# Altium footprint library MLACHP_P.PCBLIB: 129 footprints (part 3 of 9)
Each footprint in its own frame and in the unit in brackets; x right, y up, seen from the top. Pads: shape width x height; smd on the part's side, far side on the other; paste and mask are expansions set on the pad; w line width, h text height; cw(c..) or ccw(c..) is an arc to the next point about the centre after c.
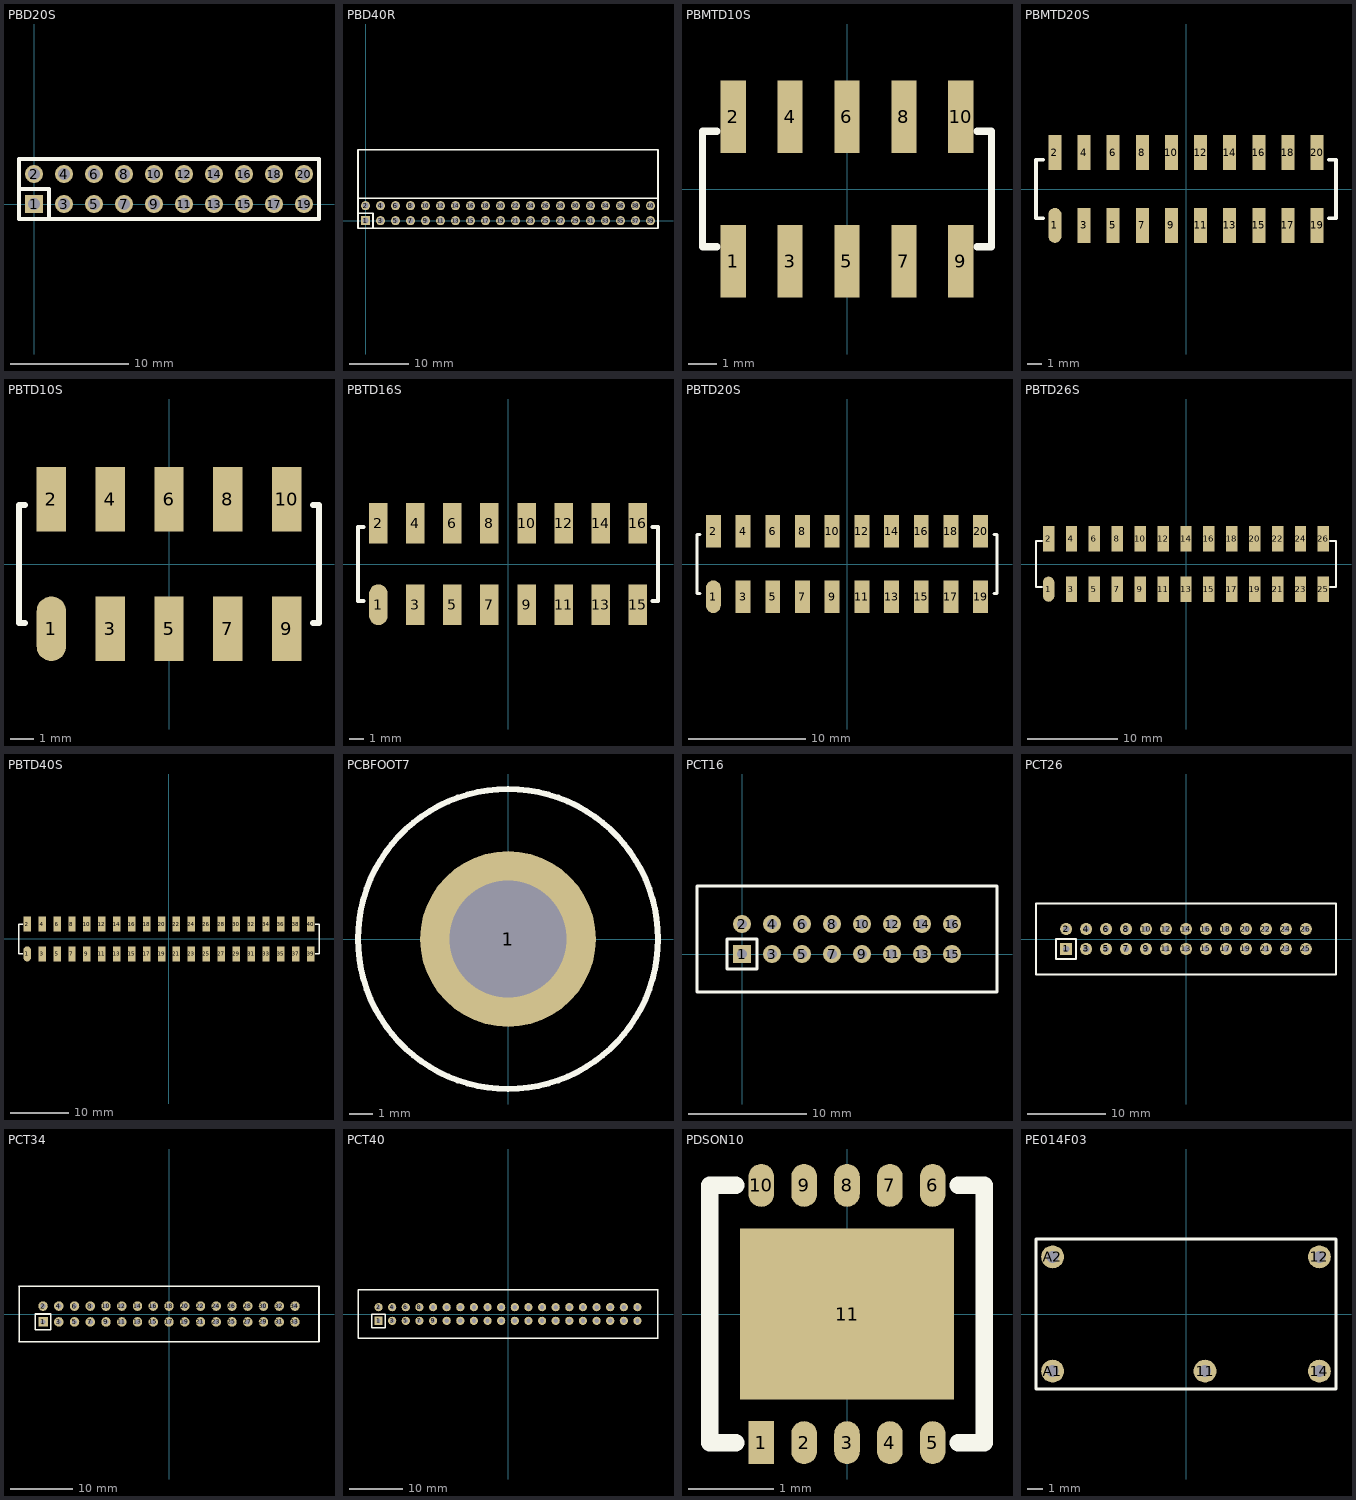
[diagram p2: the footprints below, top view; thin cyan lines are the x and y axes]

## PBD20S [mil]
pads (20):
  rect 60x60 hole 40: 1(0,0)
  round 60 hole 40: 2(0,100) 3(100,0) 4(100,100) 5(200,0) 6(200,100) 7(300,0) 8(300,100) 9(400,0) 10(400,100) 11(500,0) 12(500,100) 13(600,0) 14(600,100) 15(700,0) 16(700,100) 17(800,0) 18(800,100) 19(900,0) 20(900,100)
TopOverlay:
  lines w12: -50,50 50,50 50,-50 ; -50,-50 950,-50 950,150 -50,150 -50,-50
3D body: height 314.96, standoff 0, extent 900,-50 950,150
3D body: height 314.96, standoff 0, extent 700,-50 800,150
3D body: height 275.59, standoff -118.11, extent 680,-20 720,20
3D body: height 275.59, standoff -118.11, extent 680,80 720,120
3D body: height 275.59, standoff -118.11, extent 580,-20 620,20
3D body: height 275.59, standoff -118.11, extent 580,80 620,120
3D body: height 275.59, standoff -118.11, extent 480,-20 520,20
3D body: height 275.59, standoff -118.11, extent 480,80 520,120
3D body: height 275.59, standoff -118.11, extent 380,-20 420,20
3D body: height 275.59, standoff -118.11, extent 380,80 420,120
3D body: height 275.59, standoff -118.11, extent 280,-20 320,20
3D body: height 275.59, standoff -118.11, extent 280,80 320,120
3D body: height 275.59, standoff -118.11, extent 180,-20 220,20
3D body: height 275.59, standoff -118.11, extent 180,80 220,120
3D body: height 275.59, standoff -118.11, extent 80,-20 120,20
3D body: height 275.59, standoff -118.11, extent 80,80 120,120
3D body: height 275.59, standoff -118.11, extent -20,80 20,120
3D body: height 275.59, standoff -118.11, extent -20,-20 20,20
3D body: height 314.96, standoff 0, extent 0,-50 100,150
3D body: height 314.96, standoff 0, extent 100,-50 200,150
3D body: height 314.96, standoff 0, extent 200,-50 300,150
3D body: height 314.96, standoff 0, extent 300,-50 400,150
3D body: height 314.96, standoff 0, extent 400,-50 500,150
3D body: height 314.96, standoff 0, extent 500,-50 600,150
3D body: height 314.96, standoff 0, extent 600,-50 700,150
3D body: height 314.96, standoff 0, extent -50,-50 0,150
3D body: height 314.96, standoff 0, extent 800,-50 900,150
3D body: height 275.59, standoff -118.11, extent 780,80 820,120
3D body: height 275.59, standoff -118.11, extent 780,-20 820,20
3D body: height 275.59, standoff -118.11, extent 880,80 920,120
3D body: height 275.59, standoff -118.11, extent 880,-20 920,20

## PBD40R [mil]
pads (40):
  rect 60x60 hole 40: 1(0,0)
  round 60 hole 40: 2(0,100) 3(100,0) 4(100,100) 5(200,0) 6(200,100) 7(300,0) 8(300,100) 9(400,0) 10(400,100) 11(500,0) 12(500,100) 13(600,0) 14(600,100) 15(700,0) 16(700,100) 17(800,0) 18(800,100) 19(900,0) 20(900,100) 21(1000,0) 22(1000,100) 23(1100,0) 24(1100,100) 25(1200,0) 26(1200,100) 27(1300,0) 28(1300,100) 29(1400,0) 30(1400,100) 31(1500,0) 32(1500,100) 33(1600,0) 34(1600,100) 35(1700,0) 36(1700,100) 37(1800,0) 38(1800,100) 39(1900,0) 40(1900,100)
TopOverlay:
  lines w11.81: -50,150 -50,472.44 1950,472.44 1950,150
  lines w12: -50,50 50,50 50,-50 ; -50,-50 -50,150 1950,150 1950,-50 950,-50 -50,-50
3D body: height 155, standoff 145, extent 1885,-5 1915,205
3D body: height 55, standoff 45, extent 1885,95 1915,205
3D body: height 155, standoff -100, extent 1885,-5 1915,5
3D body: height 55, standoff -100, extent 1885,95 1915,105
3D body: height 155, standoff 145, extent 1785,-5 1815,205
3D body: height 55, standoff 45, extent 1785,95 1815,205
3D body: height 155, standoff -100, extent 1785,-5 1815,5
3D body: height 55, standoff -100, extent 1785,95 1815,105
3D body: height 155, standoff 145, extent 1685,-5 1715,205
3D body: height 55, standoff 45, extent 1685,95 1715,205
3D body: height 155, standoff -100, extent 1685,-5 1715,5
3D body: height 55, standoff -100, extent 1685,95 1715,105
3D body: height 155, standoff 145, extent 1585,-5 1615,205
3D body: height 55, standoff 45, extent 1585,95 1615,205
3D body: height 155, standoff -100, extent 1585,-5 1615,5
3D body: height 55, standoff -100, extent 1585,95 1615,105
3D body: height 155, standoff 145, extent 1485,-5 1515,205
3D body: height 55, standoff 45, extent 1485,95 1515,205
3D body: height 155, standoff -100, extent 1485,-5 1515,5
3D body: height 55, standoff -100, extent 1485,95 1515,105
3D body: height 155, standoff 145, extent 1385,-5 1415,205
3D body: height 55, standoff 45, extent 1385,95 1415,205
3D body: height 155, standoff -100, extent 1385,-5 1415,5
3D body: height 55, standoff -100, extent 1385,95 1415,105
3D body: height 155, standoff 145, extent 1285,-5 1315,205
3D body: height 55, standoff 45, extent 1285,95 1315,205
3D body: height 155, standoff -100, extent 1285,-5 1315,5
3D body: height 55, standoff -100, extent 1285,95 1315,105
3D body: height 155, standoff 145, extent 1185,-5 1215,205
3D body: height 55, standoff 45, extent 1185,95 1215,205
3D body: height 155, standoff -100, extent 1185,-5 1215,5
3D body: height 55, standoff -100, extent 1185,95 1215,105
3D body: height 155, standoff 145, extent 1085,-5 1115,205
3D body: height 55, standoff 45, extent 1085,95 1115,205
3D body: height 155, standoff -100, extent 1085,-5 1115,5
3D body: height 55, standoff -100, extent 1085,95 1115,105
3D body: height 155, standoff 145, extent 985,-5 1015,205
3D body: height 55, standoff 45, extent 985,95 1015,205
3D body: height 155, standoff -100, extent 985,-5 1015,5
3D body: height 55, standoff -100, extent 985,95 1015,105
3D body: height 155, standoff 145, extent 885,-5 915,205
3D body: height 55, standoff 45, extent 885,95 915,205
3D body: height 155, standoff -100, extent 885,-5 915,5
3D body: height 55, standoff -100, extent 885,95 915,105
3D body: height 155, standoff 145, extent 785,-5 815,205
3D body: height 55, standoff 45, extent 785,95 815,205
3D body: height 155, standoff -100, extent 785,-5 815,5
3D body: height 55, standoff -100, extent 785,95 815,105
3D body: height 155, standoff 145, extent 685,-5 715,205
3D body: height 55, standoff 45, extent 685,95 715,205
3D body: height 155, standoff -100, extent 685,-5 715,5
3D body: height 55, standoff -100, extent 685,95 715,105
3D body: height 155, standoff 145, extent 585,-5 615,205
3D body: height 55, standoff 45, extent 585,95 615,205
3D body: height 155, standoff -100, extent 585,-5 615,5
3D body: height 55, standoff -100, extent 585,95 615,105
3D body: height 155, standoff 145, extent 485,-5 515,205
3D body: height 55, standoff 45, extent 485,95 515,205
3D body: height 155, standoff -100, extent 485,-5 515,5
3D body: height 55, standoff -100, extent 485,95 515,105
3D body: height 155, standoff 145, extent 385,-5 415,205
3D body: height 55, standoff 45, extent 385,95 415,205
3D body: height 155, standoff -100, extent 385,-5 415,5
3D body: height 55, standoff -100, extent 385,95 415,105
3D body: height 155, standoff 145, extent 285,-5 315,205
3D body: height 55, standoff 45, extent 285,95 315,205
3D body: height 155, standoff -100, extent 285,-5 315,5
3D body: height 55, standoff -100, extent 285,95 315,105
3D body: height 155, standoff 145, extent 185,-5 215,205
3D body: height 55, standoff 45, extent 185,95 215,205
3D body: height 155, standoff -100, extent 185,-5 215,5
3D body: height 55, standoff -100, extent 185,95 215,105
3D body: height 155, standoff 145, extent 85,-5 115,205
3D body: height 55, standoff 45, extent 85,95 115,205
3D body: height 155, standoff -100, extent 85,-5 115,5
3D body: height 55, standoff -100, extent 85,95 115,105
3D body: height 55, standoff -100, extent -15,95 15,105
3D body: height 155, standoff -100, extent -15,-5 15,5
3D body: height 200, standoff 0, extent -50,150 1950,472.44
3D body: height 55, standoff 45, extent -15,95 15,205
3D body: height 155, standoff 145, extent -15,-5 15,205

## PBMTD10S [mil]
pads (10):
  rect 35x100 smd: 1(-157.48,-100) 2(-157.48,100) 3(-78.74,-100) 4(-78.74,100) 5(0,-100) 6(0,100) 7(78.74,-100) 8(78.74,100) 9(157.48,-100) 10(157.48,100)
TopOverlay:
  lines w10: -180,-80 -200,-80 -200,80 -180,80 ; 180,-80 200,-80 200,80 180,80

## PBMTD20S [mm]
pads (20):
  oval 0.9x2.4 smd: 1(-9,-2.5)
  rect 0.9x2.4 smd: 2(-9,2.5) 3(-7,-2.5) 4(-7,2.5) 5(-5,-2.5) 6(-5,2.5) 7(-3,-2.5) 8(-3,2.5) 9(-1,-2.5) 10(-1,2.5) 11(1,-2.5) 12(1,2.5) 13(3,-2.5) 14(3,2.5) 15(5,-2.5) 16(5,2.5) 17(7,-2.5) 18(7,2.5) 19(9,-2.5) 20(9,2.5)
TopOverlay:
  lines w0.254: -9.8,-2 -10.3,-2 -10.3,2 -9.8,2 ; 9.8,-2 10.3,-2 10.3,2 9.8,2

## PBTD10S [mil]
pads (10):
  oval 50x110 smd: 1(-200,-110)
  rect 50x110 smd: 2(-200,110) 3(-100,-110) 4(-100,110) 5(0,-110) 6(0,110) 7(100,-110) 8(100,110) 9(200,-110) 10(200,110)
TopOverlay:
  lines w10: -245,-100 -255,-100 -255,100 -245,100 ; 245,-100 255,-100 255,100 245,100
3D body: height 295.28, standoff 15.75, extent 200,-100 250,100
3D body: height 295.28, standoff 15.75, extent 100,-100 200,100
3D body: height 295.28, standoff 15.75, extent 0,-100 100,100
3D body: height 295.28, standoff 15.75, extent -100,-100 0,100
3D body: height 295.28, standoff 15.75, extent -200,-100 -100,100
3D body: height 250, standoff 0, extent 190,40 210,60
3D body: height 250, standoff 0, extent 190,-60 210,-40
3D body: height 250, standoff 0, extent 90,-60 110,-40
3D body: height 250, standoff 0, extent -10,-60 10,-40
3D body: height 250, standoff 0, extent -110,-60 -90,-40
3D body: height 250, standoff 0, extent -210,-60 -190,-40
3D body: height 250, standoff 0, extent 90,40 110,60
3D body: height 250, standoff 0, extent -10,40 10,60
3D body: height 250, standoff 0, extent -110,40 -90,60
3D body: height 250, standoff 0, extent -210,40 -190,60
3D body: height 295.28, standoff 15.75, extent -250,-100 -200,100
3D body: height 9.84, standoff 0, extent -210,60 -190,135
3D body: height 9.84, standoff 0, extent -110,60 -90,135
3D body: height 9.84, standoff 0, extent -10,60 10,135
3D body: height 9.84, standoff 0, extent 90,60 110,135
3D body: height 9.84, standoff 0, extent 190,60 210,135
3D body: height 9.84, standoff 0, extent 190,-135 210,-60
3D body: height 9.84, standoff 0, extent 90,-135 110,-60
3D body: height 9.84, standoff 0, extent -10,-135 10,-60
3D body: height 9.84, standoff 0, extent -110,-135 -90,-60
3D body: height 9.84, standoff 0, extent -210,-135 -190,-60

## PBTD16S [mil]
pads (16):
  oval 50x110 smd: 1(-350,-110)
  rect 50x110 smd: 2(-350,110) 3(-250,-110) 4(-250,110) 5(-150,-110) 6(-150,110) 7(-50,-110) 8(-50,110) 9(50,-110) 10(50,110) 11(150,-110) 12(150,110) 13(250,-110) 14(250,110) 15(350,-110) 16(350,110)
TopOverlay:
  lines w10: -390,-100 -405,-100 -405,100 -390,100 ; 390,-100 405,-100 405,100 390,100

## PBTD20S [mil]
pads (20):
  oval 50x110 smd: 1(-450,-110)
  rect 50x110 smd: 2(-450,110) 3(-350,-110) 4(-350,110) 5(-250,-110) 6(-250,110) 7(-150,-110) 8(-150,110) 9(-50,-110) 10(-50,110) 11(50,-110) 12(50,110) 13(150,-110) 14(150,110) 15(250,-110) 16(250,110) 17(350,-110) 18(350,110) 19(450,-110) 20(450,110)
TopOverlay:
  lines w10: -495,-100 -505,-100 -505,100 -495,100 ; 495,-100 505,-100 505,100 495,100

## PBTD26S [mil]
pads (26):
  oval 50x110 smd: 1(-600,-110)
  rect 50x110 smd: 2(-600,110) 3(-500,-110) 4(-500,110) 5(-400,-110) 6(-400,110) 7(-300,-110) 8(-300,110) 9(-200,-110) 10(-200,110) 11(-100,-110) 12(-100,110) 13(0,-110) 14(0,110) 15(100,-110) 16(100,110) 17(200,-110) 18(200,110) 19(300,-110) 20(300,110) 21(400,-110) 22(400,110) 23(500,-110) 24(500,110) 25(600,-110) 26(600,110)
TopOverlay:
  lines w10: -630,-100 -655,-100 -655,100 -630,100 ; 630,-100 655,-100 655,100 630,100

## PBTD40S [mil]
pads (40):
  oval 50x100 smd: 1(-950,-100)
  rect 50x100 smd: 2(-950,100) 3(-850,-100) 4(-850,100) 5(-750,-100) 6(-750,100) 7(-650,-100) 8(-650,100) 9(-550,-100) 10(-550,100) 11(-450,-100) 12(-450,100) 13(-350,-100) 14(-350,100) 15(-250,-100) 16(-250,100) 17(-150,-100) 18(-150,100) 19(-50,-100) 20(-50,100) 21(50,-100) 22(50,100) 23(150,-100) 24(150,100) 25(250,-100) 26(250,100) 27(350,-100) 28(350,100) 29(450,-100) 30(450,100) 31(550,-100) 32(550,100) 33(650,-100) 34(650,100) 35(750,-100) 36(750,100) 37(850,-100) 38(850,100) 39(950,-100) 40(950,100)
TopOverlay:
  lines w10: -980,-100 -1005,-100 -1005,100 -980,100 ; 980,-100 1005,-100 1005,100 980,100

## PCBFOOT7 [mil]
pads (1):
  round 300 hole 200: 1(0,0)
TopOverlay:
  circle w10: c0,0 r255.91
BottomOverlay:
  circle w10: c0,0 r255.91

## PCT16 [mil]
height 354.33
pads (16):
  rect 60x60 hole 32: 1(0,0)
  round 60 hole 32: 2(0,100) 3(100,0) 4(100,100) 5(200,0) 6(200,100) 7(300,0) 8(300,100) 9(400,0) 10(400,100) 11(500,0) 12(500,100) 13(600,0) 14(600,100) 15(700,0) 16(700,100)
TopOverlay:
  lines w10: -150,-127.17 850,-127.17 850,227.17 -150,227.17 -150,-127.17 ; -50,-50 -50,50 50,50 50,-50 -50,-50
3D body: height 267.72, standoff 196.85, extent -150,-127.17 850,227.17
3D body: height 196.85, standoff 0, extent 766.93,-127.17 850,227.17
3D body: height 196.85, standoff 0, extent -150,-127.17 -66.93,227.17
3D body: height 157.48, standoff 0, extent -150,-127.17 850,227.17
3D body: height 216.54, standoff -133.86, extent -11.81,-7.87 11.81,7.87
3D body: height 216.54, standoff -133.86, extent 88.19,-7.87 111.81,7.87
3D body: height 216.54, standoff -133.86, extent 188.19,-7.87 211.81,7.87
3D body: height 216.54, standoff -133.86, extent 288.19,-7.87 311.81,7.87
3D body: height 216.54, standoff -133.86, extent 388.19,-7.87 411.81,7.87
3D body: height 216.54, standoff -133.86, extent 488.19,-7.87 511.81,7.87
3D body: height 216.54, standoff -133.86, extent 588.19,-7.87 611.81,7.87
3D body: height 216.54, standoff -133.86, extent 688.19,-7.87 711.81,7.87
3D body: height 216.54, standoff -133.86, extent 688.19,92.13 711.81,107.87
3D body: height 216.54, standoff -133.86, extent 588.19,92.13 611.81,107.87
3D body: height 216.54, standoff -133.86, extent 488.19,92.13 511.81,107.87
3D body: height 216.54, standoff -133.86, extent 388.19,92.13 411.81,107.87
3D body: height 216.54, standoff -133.86, extent 288.19,92.13 311.81,107.87
3D body: height 216.54, standoff -133.86, extent 188.19,92.13 211.81,107.87
3D body: height 216.54, standoff -133.86, extent 88.19,92.13 111.81,107.87
3D body: height 216.54, standoff -133.86, extent -11.81,92.13 11.81,107.87

## PCT26 [mil]
height 354.33
pads (26):
  rect 60x60 hole 32: 1(-600,-50)
  round 60 hole 32: 2(-600,50) 3(-500,-50) 4(-500,50) 5(-400,-50) 6(-400,50) 7(-300,-50) 8(-300,50) 9(-200,-50) 10(-200,50) 11(-100,-50) 12(-100,50) 13(0,-50) 14(0,50) 15(100,-50) 16(100,50) 17(200,-50) 18(200,50) 19(300,-50) 20(300,50) 21(400,-50) 22(400,50) 23(500,-50) 24(500,50) 25(600,-50) 26(600,50)
TopOverlay:
  lines w10: -750.39,-177.17 -750.39,177.17 750.39,177.17 750.39,-177.17 -750.39,-177.17 ; -650,-100 -550,-100 -550,0 -650,0 -650,-100
3D body: height 216.54, standoff -133.86, extent -611.81,42.13 -588.19,57.87
3D body: height 216.54, standoff -133.86, extent -511.81,42.13 -488.19,57.87
3D body: height 216.54, standoff -133.86, extent -411.81,42.13 -388.19,57.87
3D body: height 216.54, standoff -133.86, extent -311.81,42.13 -288.19,57.87
3D body: height 216.54, standoff -133.86, extent -211.81,42.13 -188.19,57.87
3D body: height 216.54, standoff -133.86, extent -111.81,42.13 -88.19,57.87
3D body: height 216.54, standoff -133.86, extent -11.81,42.13 11.81,57.87
3D body: height 216.54, standoff -133.86, extent 88.19,42.13 111.81,57.87
3D body: height 216.54, standoff -133.86, extent 88.19,-57.87 111.81,-42.13
3D body: height 216.54, standoff -133.86, extent -11.81,-57.87 11.81,-42.13
3D body: height 216.54, standoff -133.86, extent -111.81,-57.87 -88.19,-42.13
3D body: height 216.54, standoff -133.86, extent -211.81,-57.87 -188.19,-42.13
3D body: height 216.54, standoff -133.86, extent -311.81,-57.87 -288.19,-42.13
3D body: height 216.54, standoff -133.86, extent -411.81,-57.87 -388.19,-42.13
3D body: height 216.54, standoff -133.86, extent -511.81,-57.87 -488.19,-42.13
3D body: height 216.54, standoff -133.86, extent -611.81,-57.87 -588.19,-42.13
3D body: height 157.48, standoff 0, extent -750,-177.17 750.39,177.17
3D body: height 196.85, standoff 0, extent -750,-177.17 -666.93,177.17
3D body: height 196.85, standoff 0, extent 667.32,-177.17 750.39,177.17
3D body: height 267.72, standoff 196.85, extent -750,-177.17 750.39,177.17
3D body: height 216.54, standoff -133.86, extent 188.19,-57.87 211.81,-42.13
3D body: height 216.54, standoff -133.86, extent 288.19,-57.87 311.81,-42.13
3D body: height 216.54, standoff -133.86, extent 388.19,-57.87 411.81,-42.13
3D body: height 216.54, standoff -133.86, extent 488.19,-57.87 511.81,-42.13
3D body: height 216.54, standoff -133.86, extent 588.19,-57.87 611.81,-42.13
3D body: height 216.54, standoff -133.86, extent 588.19,42.13 611.81,57.87
3D body: height 216.54, standoff -133.86, extent 488.19,42.13 511.81,57.87
3D body: height 216.54, standoff -133.86, extent 388.19,42.13 411.81,57.87
3D body: height 216.54, standoff -133.86, extent 288.19,42.13 311.81,57.87
3D body: height 216.54, standoff -133.86, extent 188.19,42.13 211.81,57.87

## PCT34 [mil]
height 354.33
pads (34):
  rect 60x60 hole 32: 1(-800,-50)
  round 60 hole 32: 2(-800,50) 3(-700,-50) 4(-700,50) 5(-600,-50) 6(-600,50) 7(-500,-50) 8(-500,50) 9(-400,-50) 10(-400,50) 11(-300,-50) 12(-300,50) 13(-200,-50) 14(-200,50) 15(-100,-50) 16(-100,50) 17(0,-50) 18(0,50) 19(100,-50) 20(100,50) 21(200,-50) 22(200,50) 23(300,-50) 24(300,50) 25(400,-50) 26(400,50) 27(500,-50) 28(500,50) 29(600,-50) 30(600,50) 31(700,-50) 32(700,50) 33(800,-50) 34(800,50)
TopOverlay:
  lines w10: -952.76,-177.17 952.76,-177.17 952.76,177.17 -952.76,177.17 ; -950.79,-177.17 -950.79,177.17 ; -850,-100 -850,0 -750,0 -750,-100 -850,-100
3D body: height 216.54, standoff -133.86, extent 788.19,42.13 811.81,57.87
3D body: height 216.54, standoff -133.86, extent 788.19,-57.87 811.81,-42.13
3D body: height 216.54, standoff -133.86, extent -11.81,42.13 11.81,57.87
3D body: height 216.54, standoff -133.86, extent 88.19,42.13 111.81,57.87
3D body: height 216.54, standoff -133.86, extent 188.19,42.13 211.81,57.87
3D body: height 216.54, standoff -133.86, extent 288.19,42.13 311.81,57.87
3D body: height 216.54, standoff -133.86, extent 388.19,42.13 411.81,57.87
3D body: height 216.54, standoff -133.86, extent 488.19,42.13 511.81,57.87
3D body: height 216.54, standoff -133.86, extent 588.19,42.13 611.81,57.87
3D body: height 216.54, standoff -133.86, extent 688.19,42.13 711.81,57.87
3D body: height 216.54, standoff -133.86, extent 688.19,-57.87 711.81,-42.13
3D body: height 216.54, standoff -133.86, extent 588.19,-57.87 611.81,-42.13
3D body: height 216.54, standoff -133.86, extent 488.19,-57.87 511.81,-42.13
3D body: height 216.54, standoff -133.86, extent 388.19,-57.87 411.81,-42.13
3D body: height 216.54, standoff -133.86, extent 288.19,-57.87 311.81,-42.13
3D body: height 216.54, standoff -133.86, extent 188.19,-57.87 211.81,-42.13
3D body: height 216.54, standoff -133.86, extent 88.19,-57.87 111.81,-42.13
3D body: height 216.54, standoff -133.86, extent -11.81,-57.87 11.81,-42.13
3D body: height 267.72, standoff 196.85, extent -950,-177.17 952.76,177.17
3D body: height 196.85, standoff 0, extent 869.68,-177.17 952.76,177.17
3D body: height 196.85, standoff 0, extent -950,-177.17 -866.93,177.17
3D body: height 157.48, standoff 0, extent -950,-177.17 952.76,177.17
3D body: height 216.54, standoff -133.86, extent -811.81,-57.87 -788.19,-42.13
3D body: height 216.54, standoff -133.86, extent -711.81,-57.87 -688.19,-42.13
3D body: height 216.54, standoff -133.86, extent -611.81,-57.87 -588.19,-42.13
3D body: height 216.54, standoff -133.86, extent -511.81,-57.87 -488.19,-42.13
3D body: height 216.54, standoff -133.86, extent -411.81,-57.87 -388.19,-42.13
3D body: height 216.54, standoff -133.86, extent -311.81,-57.87 -288.19,-42.13
3D body: height 216.54, standoff -133.86, extent -211.81,-57.87 -188.19,-42.13
3D body: height 216.54, standoff -133.86, extent -111.81,-57.87 -88.19,-42.13
3D body: height 216.54, standoff -133.86, extent -111.81,42.13 -88.19,57.87
3D body: height 216.54, standoff -133.86, extent -211.81,42.13 -188.19,57.87
3D body: height 216.54, standoff -133.86, extent -311.81,42.13 -288.19,57.87
3D body: height 216.54, standoff -133.86, extent -411.81,42.13 -388.19,57.87
3D body: height 216.54, standoff -133.86, extent -511.81,42.13 -488.19,57.87
3D body: height 216.54, standoff -133.86, extent -611.81,42.13 -588.19,57.87
3D body: height 216.54, standoff -133.86, extent -711.81,42.13 -688.19,57.87
3D body: height 216.54, standoff -133.86, extent -811.81,42.13 -788.19,57.87

## PCT40 [mil]
height 354.33
pads (40):
  rect 60x60 hole 32: 1(-950,-50)
  round 60 hole 32: 2(-950,50) 3(-850,-50) 4(-850,50) 5(-750,-50) 6(-750,50) 7(-650,-50) 8(-650,50) 9(-550,-50) 10(-550,50) 11(-450,-50) 12(-450,50) 13(-350,-50) 14(-350,50) 15(-250,-50) 16(-250,50) 17(-150,-50) 18(-150,50) 19(-50,-50) 20(-50,50) 21(50,-50) 22(50,50) 23(150,-50) 24(150,50) 25(250,-50) 26(250,50) 27(350,-50) 28(350,50) 29(450,-50) 30(450,50) 31(550,-50) 32(550,50) 33(650,-50) 34(650,50) 35(750,-50) 36(750,50) 37(850,-50) 38(850,50) 39(950,-50) 40(950,50)
TopOverlay:
  lines w10: 1100,-177.17 1100,177.17 ; 1100.79,-177.17 -1100.79,-177.17 -1100.79,177.17 1100.79,177.17 ; -1000,-100 -1000,0 -900,0 -900,-100 -1000,-100
3D body: height 216.54, standoff -133.86, extent 638.19,42.13 661.81,57.87
3D body: height 216.54, standoff -133.86, extent 738.19,42.13 761.81,57.87
3D body: height 216.54, standoff -133.86, extent 838.19,42.13 861.81,57.87
3D body: height 216.54, standoff -133.86, extent 938.19,42.13 961.81,57.87
3D body: height 216.54, standoff -133.86, extent 938.19,-57.87 961.81,-42.13
3D body: height 216.54, standoff -133.86, extent 838.19,-57.87 861.81,-42.13
3D body: height 216.54, standoff -133.86, extent 738.19,-57.87 761.81,-42.13
3D body: height 216.54, standoff -133.86, extent 638.19,-57.87 661.81,-42.13
3D body: height 216.54, standoff -133.86, extent -161.81,42.13 -138.19,57.87
3D body: height 216.54, standoff -133.86, extent -61.81,42.13 -38.19,57.87
3D body: height 216.54, standoff -133.86, extent 38.19,42.13 61.81,57.87
3D body: height 216.54, standoff -133.86, extent 138.19,42.13 161.81,57.87
3D body: height 216.54, standoff -133.86, extent 238.19,42.13 261.81,57.87
3D body: height 216.54, standoff -133.86, extent 338.19,42.13 361.81,57.87
3D body: height 216.54, standoff -133.86, extent 438.19,42.13 461.81,57.87
3D body: height 216.54, standoff -133.86, extent 538.19,42.13 561.81,57.87
3D body: height 216.54, standoff -133.86, extent 538.19,-57.87 561.81,-42.13
3D body: height 216.54, standoff -133.86, extent 438.19,-57.87 461.81,-42.13
3D body: height 216.54, standoff -133.86, extent 338.19,-57.87 361.81,-42.13
3D body: height 216.54, standoff -133.86, extent 238.19,-57.87 261.81,-42.13
3D body: height 216.54, standoff -133.86, extent 138.19,-57.87 161.81,-42.13
3D body: height 216.54, standoff -133.86, extent 38.19,-57.87 61.81,-42.13
3D body: height 216.54, standoff -133.86, extent -61.81,-57.87 -38.19,-42.13
3D body: height 216.54, standoff -133.86, extent -161.81,-57.87 -138.19,-42.13
3D body: height 267.72, standoff 196.85, extent -1100,-177.17 1100,177.17
3D body: height 196.85, standoff 0, extent 1016.93,-177.17 1100,177.17
3D body: height 196.85, standoff 0, extent -1100,-177.17 -1016.93,177.17
3D body: height 157.48, standoff 0, extent -1100,-177.17 1100,177.17
3D body: height 216.54, standoff -133.86, extent -961.81,-57.87 -938.19,-42.13
3D body: height 216.54, standoff -133.86, extent -861.81,-57.87 -838.19,-42.13
3D body: height 216.54, standoff -133.86, extent -761.81,-57.87 -738.19,-42.13
3D body: height 216.54, standoff -133.86, extent -661.81,-57.87 -638.19,-42.13
3D body: height 216.54, standoff -133.86, extent -561.81,-57.87 -538.19,-42.13
3D body: height 216.54, standoff -133.86, extent -461.81,-57.87 -438.19,-42.13
3D body: height 216.54, standoff -133.86, extent -361.81,-57.87 -338.19,-42.13
3D body: height 216.54, standoff -133.86, extent -261.81,-57.87 -238.19,-42.13
3D body: height 216.54, standoff -133.86, extent -261.81,42.13 -238.19,57.87
3D body: height 216.54, standoff -133.86, extent -361.81,42.13 -338.19,57.87
3D body: height 216.54, standoff -133.86, extent -461.81,42.13 -438.19,57.87
3D body: height 216.54, standoff -133.86, extent -561.81,42.13 -538.19,57.87
3D body: height 216.54, standoff -133.86, extent -661.81,42.13 -638.19,57.87
3D body: height 216.54, standoff -133.86, extent -761.81,42.13 -738.19,57.87
3D body: height 216.54, standoff -133.86, extent -861.81,42.13 -838.19,57.87
3D body: height 216.54, standoff -133.86, extent -961.81,42.13 -938.19,57.87

## PDSON10 [mm]
pads (11):
  rect 0.3x0.5 smd: 1(-1,-1.5)
  oval 0.3x0.5 smd: 2(-0.5,-1.5) 3(0,-1.5) 4(0.5,-1.5) 5(1,-1.5) 6(1,1.5) 7(0.5,1.5) 8(0,1.5) 9(-0.5,1.5) 10(-1,1.5)
  rect 2.5x2 smd: 11(0,0)
TopOverlay:
  lines w0.203: -1.3,-1.5 -1.6,-1.5 -1.6,1.5 -1.3,1.5 ; 1.3,-1.5 1.6,-1.5 1.6,1.5 1.3,1.5

## PE014F03 [mil]
pads (5):
  round 60 hole 32: 11(50,-150) 12(350,150) 14(350,-150) A1(-350,-150) A2(-350,150)
TopOverlay:
  lines w8: -393.7,-196.85 393.7,-196.85 393.7,196.85 -393.7,196.85 -393.7,-196.85